# Altium schematic symbol library VES221M1CTR-0607.Schlib: 1 symbol
Pins are listed as number, name and electrical type; pins without a type are passive.

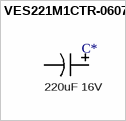
[diagram p0: symbol VES221M1CTR-0607]

## VES221M1CTR-0607
designator C*  value 220uF 16V  (hidden comment: *)
220uF ±20% 16V SMD,6.3x7.7mm RoHS; ComponentLink1Description: LCSC - VES221M1CTR-0607; ComponentLink1URL: https://lcsc.com/product-detail/Aluminum-Electrolytic-Capacitors-SMD_Lelon-VES221M1CTR-0607_C127327.html; LCSC Part #: C127327; JLCPCB Part Type: Extended
footprint SMD,6.3x7.7mm
pins: 1, 2